# Altium schematic symbol library Terminal.SchLib: 2 symbols
Pins are listed as number, name and electrical type; pins without a type are passive.

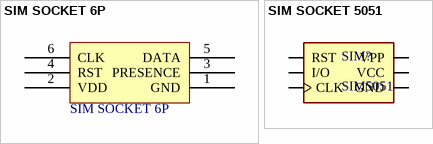
[diagram p0: symbols SIM SOCKET 6P to SIM SOCKET 5051]

## SIM SOCKET 6P
designator SIM?
Ma_Hang: MH001823; Ten_LK: Socket SIM 6P SK06
footprint SIM SOCKET 6P
pins: 1 GND, 2 VDD, 3 PRESENCE, 4 RST, 5 DATA, 6 CLK

## SIM SOCKET 5051
designator SIM?, comment SIM5051
Memory Socket, Sim Card, 6pos; MP: SIM5051-6-0-18-00-A REV C; MF: Global Connector Technology; Availability: Unavailable; SnapEDA_Link: https://www.snapeda.com/parts/SIM5051-6-0-18-00-A%20REV%20C/Global%20Connector%20Technology/view-part/812969/?ref=snap; Price: None; Package: None; Value: *
footprint SIM SOCKET 5051
pins: C1 VCC (power), C2 RST, C3 CLK, C5 GND (power), C6 VPP (power), C7 I/O